# Altium footprint library CUI_UJ2-ADH-1-TH.PcbLib: 1 footprints
Each footprint in its own frame and in the unit in brackets; x right, y up, seen from the top. Pads: shape width x height; smd on the part's side, far side on the other; paste and mask are expansions set on the pad; w line width, h text height; cw(c..) or ccw(c..) is an arc to the next point about the centre after c.
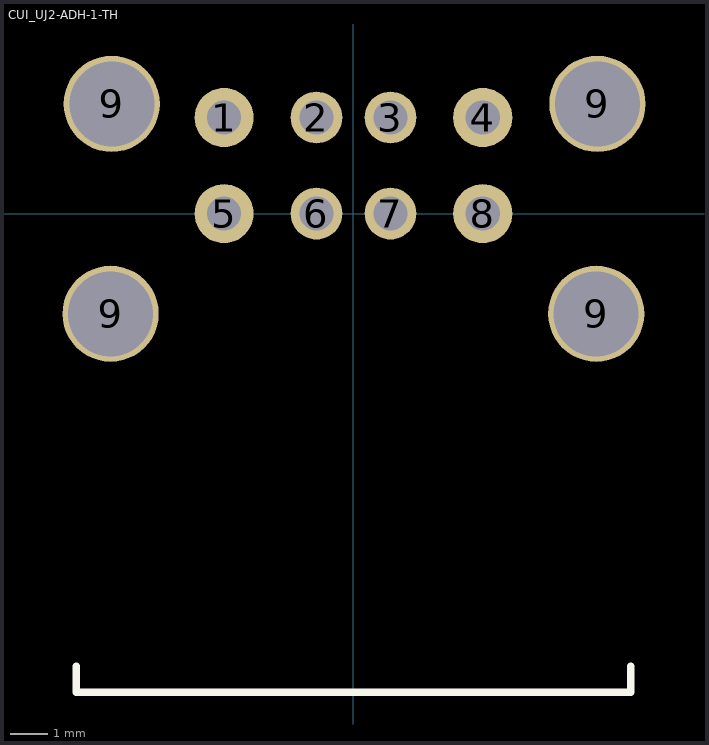
[diagram p0: the footprint, top view; thin cyan lines are the x and y axes]

## CUI_UJ2-ADH-1-TH [mm] "USB 2.0 Double Decker R/A"
pads (12):
  round 1.6 hole 0.925 unplated: 1(-3.5,2.6) 4(3.5,2.6) 5(-3.5,0) 8(3.5,0)
  round 1.4 hole 0.925 unplated: 2(-1,2.6) 3(1,2.6) 6(-1,0) 7(1,0)
  round 2.6 hole 2.3 unplated: 9(-6.57,-2.71) 9(-6.54,2.97) 9(6.57,-2.71) 9(6.6,2.97)
Top Overlay:
  lines w0.2: -7.5,-12.25 -7.5,-12.95 7.5,-12.95 7.5,-12.25
3D body "CUI_DEVICES_UJ2-ADH-1-TH.sldprt": height 16.17, standoff -3.25, extent -8.024,-12.972 8.024,4.12